# Altium integrated library Cypress PSoC 1.IntLib: 188 symbols (part 7 of 11)
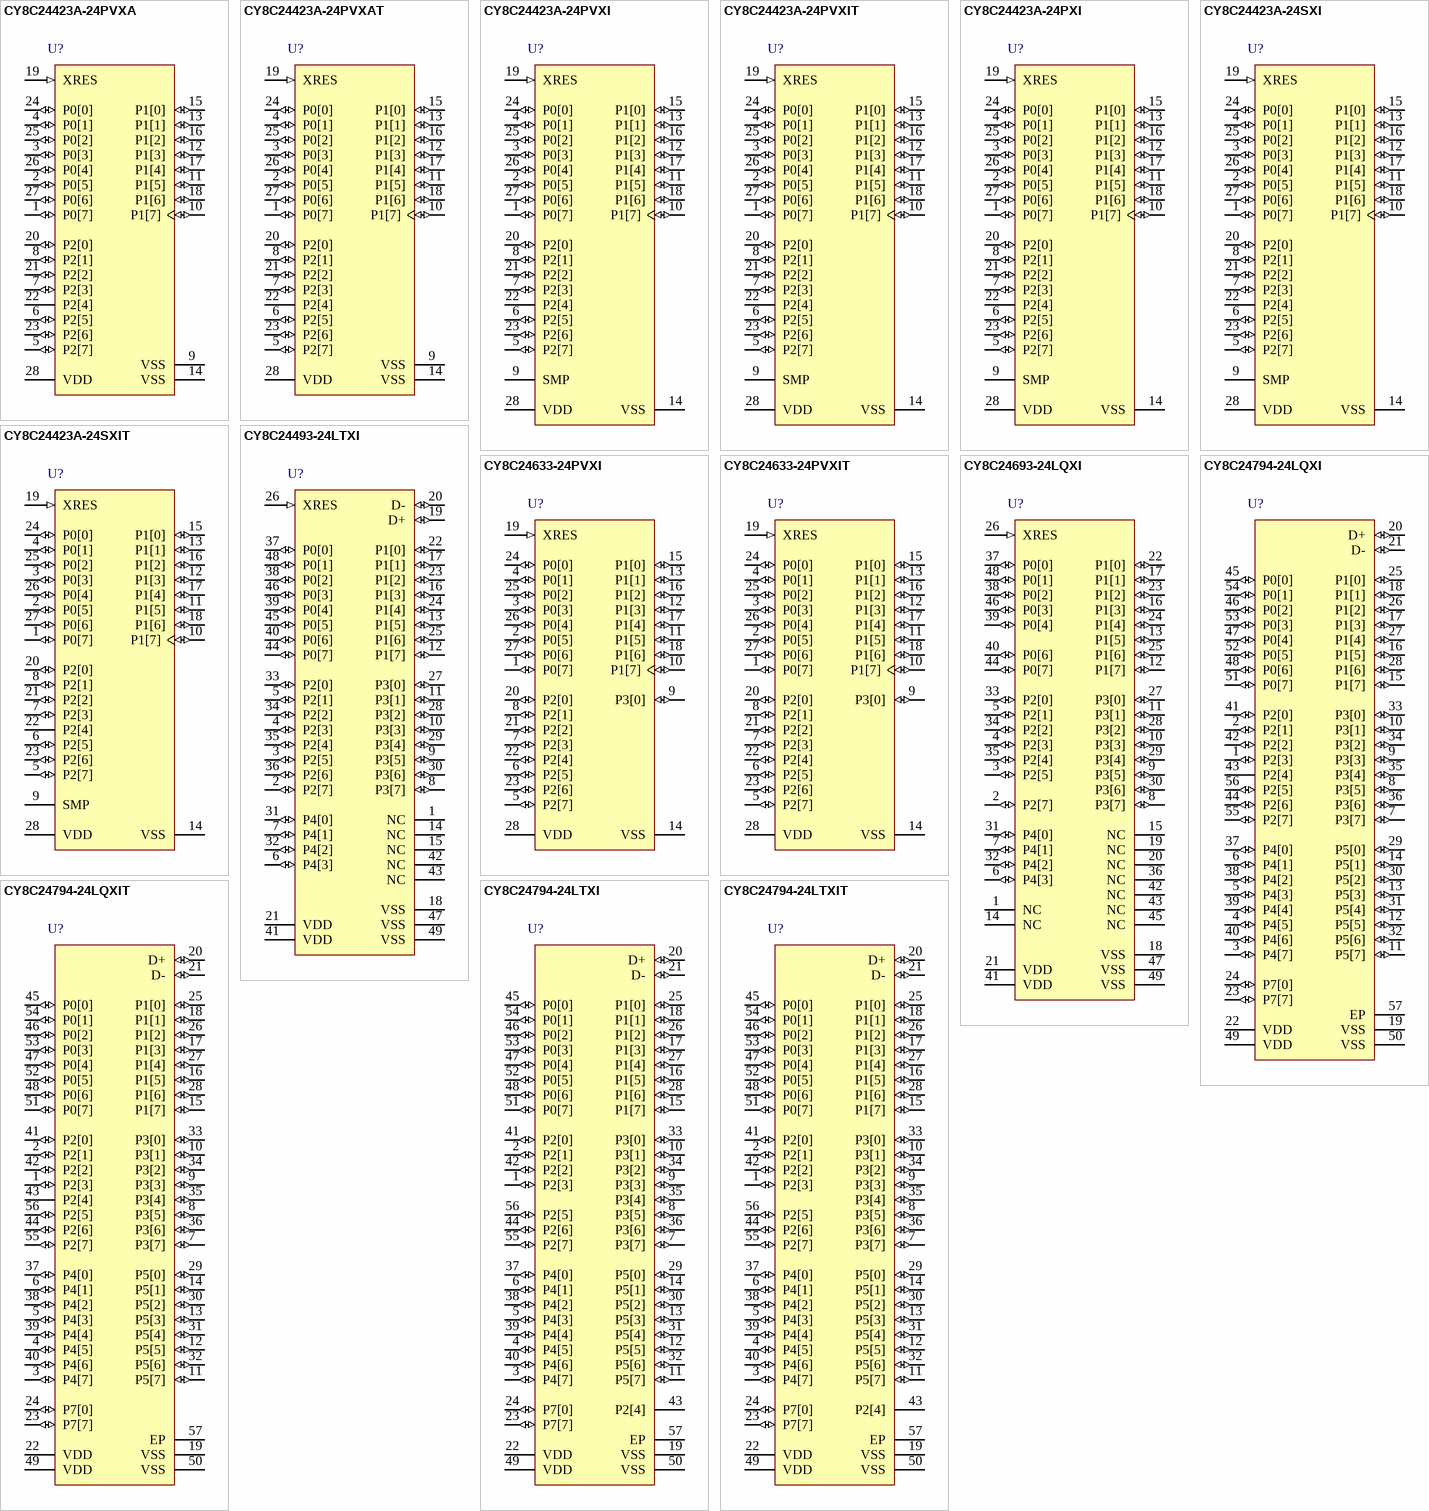
[diagram p17: symbols CY8C24423A-24PVXA to CY8C24794-24LTXIT]

## CY8C24493-24LTXI
designator U?
PSoC Programmable System-on-Chip, 32 KB Flash, 36 GPIOs, 1.71 to 5.5 V, 48-Pin QFN (LTX48A), Tray; Manufacturer: Cypress; PartNumber: CY8C24493-24LTXI; Flash (KB): 32; Max. Operating Frequency (MHz): 24; Max. Operating Voltage (V): 5.5; Min. Operating Voltage (V): 1.71; No. of GPIOs: 36; SRAM (KB): 2; DatasheetVersion: Rev. *E; PackageVersion: Rev. *F, 01/2012; PackageReference: LTX48A; PackageDescription: 48-Pin Quad Flat No Lead, Body 7 x 7 mm, Pitch 0.5 mm; Supplier 1: Digi-Key; Supplier Part Number 1: CY8C24493-24LTXI-ND; Supplier 2: Newark; Supplier Part Number 2: 08X4482; Supplier 3: Mouser; Supplier Part Number 3: 727-CY8C24493-24LTXI; Max. Operating Temp. (degreesC): 85; Min. Operating Temp. (degreesC): -40; Packing: Tray; RoHS: Pb-Free; Mounting Technology: Surface Mount; Code_JEDEC: MO-220; ComponentLink1Description: Manufacturer URL; ComponentLink1URL: http://www.cypress.com/; ComponentLink2Description: Datasheet; ComponentLink2URL: http://www.cypress.com/?docID=45475; ComponentLink3Description: Package Specification; ComponentLink3URL: http://www.cypress.com/?docID=37398
footprint CYP-LTX48A_N (QFN, 48-Leads, Body 7x7mm, Pitch 0.5mm, Thermal Pad 5.1x5.1mm, IPC Medium Density)
footprint CYP-LTX48A_L (QFN, 48-Leads, Body 7x7mm, Pitch 0.5mm, Thermal Pad 5.1x5.1mm, IPC High Density)
footprint CYP-LTX48A_M (QFN, 48-Leads, Body 7x7mm, Pitch 0.5mm, Thermal Pad 5.1x5.1mm, IPC Low Density)
pins: 1 NC "No connection", 2 P2[7] (io), 3 P2[5] (io) "Crystal output (XOut)", 4 P2[3] (io) "Crystal input (XIn)", 5 P2[1] (io), 6 P4[3] (io), 7 P4[1] (io), 8 P3[7] (io), 9 P3[5] (io), 10 P3[3] (io), 11 P3[1] (io), 12 P1[7] (io) "I2C SCL, SPI SS", 13 P1[5] (io) "I2C SDA, SPI MISO", 14 NC "No connection", 15 NC "No connection", 16 P1[3] (io) "SPI CLK", 17 P1[1] (io) "ISSP CLK, I2C SCL, SPI MOSI", 18 VSS (power) "Ground connection", 19 D+ (io) "USB D+", 20 D- (io) "USB D-", 21 VDD (power) "Supply voltage", 22 P1[0] (io) "ISSP DATA, I2C SDA, SPI CLK", 23 P1[2] (io), 24 P1[4] (io) "Optional external clock input (EXTCLK)", 25 P1[6] (io), 26 XRES (in) "Active high external reset with internal pull-down", 27 P3[0] (io), 28 P3[2] (io), 29 P3[4] (io), 30 P3[6] (io), 31 P4[0] (io), 32 P4[2] (io), 33 P2[0] (io), 34 P2[2] (io), 35 P2[4] (io), 36 P2[6] (io), 37 P0[0] (io), 38 P0[2] (io), 39 P0[4] (io), 40 P0[6] (io), 41 VDD (power) "Supply voltage", 42 NC "No connection", 43 NC "No connection", 44 P0[7] (io), 45 P0[5] (io), 46 P0[3] (io), 47 VSS (power) "Ground connection", 48 P0[1] (io), 49 VSS (power) "Center pad must be connected to ground"

## CY8C24633-24PVXI
designator U?
PSoC Programmable System-on-Chip, 8 KB Flash, 26 GPIOs, 3.00 to 5.25 V, 28 Pin SSOP (O28.21); Manufacturer: Cypress; PartNumber: CY8C24633-24PVXI; Flash (KB): 8; Max. Operating Voltage (V): 5.25; Min. Operating Voltage (V): 3.00; No. of Programmable Digital Blocks: 4; DatasheetVersion: Rev. *G; PackageVersion: *C; PackageReference: PVX28; PackageDescription: 28-Pin SSOP, Body 10.2 x 5.3 mm, Pitch 0.65 mm; Supplier 1: Digi-Key; Supplier Part Number 1: 428-2950-5-ND; Supplier 2: Mouser; Supplier Part Number 2: 727-CY8C24633-24PVXI; Mounting Technology: Surface Mount; ComponentLink1Description: Manufacturer URL; ComponentLink1URL: http://www.cypress.com/; ComponentLink2Description: Datasheet; ComponentLink2URL: http://www.cypress.com/?docID=41334; ComponentLink3Description: Package Specification; ComponentLink3URL: http://www.cypress.com/?docID=1371; ComponentLink4Description: Product URL; ComponentLink4URL: http://www.cypress.com/?rID=39599
footprint CYP-PVX28_N (SOP, 28-Leads, Body 10.2x5.3mm, Pitch 0.65mm, IPC Medium Density)
footprint CYP-PVX28_L (SOP, 28-Leads, Body 10.2x5.3mm, Pitch 0.65mm, IPC High Density)
footprint CYP-PVX28_M (SOP, 28-Leads, Body 10.2x5.3mm, Pitch 0.65mm, IPC Low Density)
pins: 1 P0[7] (io) "Analog col mux IP and ADC IP", 2 P0[5] (io) "Analog col mux IP and column O/P and ADC IP", 3 P0[3] (io) "Analog col mux IP and column O/P and ADC IP", 4 P0[1] (io) "Analog col mux IP and ADC IP", 5 P2[7] (io) "GPIO", 6 P2[5] (io) "GPIO", 7 P2[3] (io) "Direct switched capacitor input", 8 P2[1] (io) "Direct switched capacitor input", 9 P3[0] (io) "GPIO/ADC Vref (optional)", 10 P1[7] (io) "I2C SCL", 11 P1[5] (io) "I2C SDA", 12 P1[3] (io) "GPIO", 13 P1[1] (io) "GPIO, Xtal input, I2C SCL, ISSP SCL", 14 VSS (power) "Ground pin", 15 P1[0] (io) "GPIO, Xtal output, I2C SDA, ISSP SDA", 16 P1[2] (io) "GPIO", 17 P1[4] (io) "GPIO, external clock IP", 18 P1[6] (io) "GPIO", 19 XRES (in) "External reset", 20 P2[0] (io) "Direct switched capacitor input", 21 P2[2] (io) "Direct switched capacitor input", 22 P2[4] (io) "GPIO", 23 P2[6] (io) "GPIO", 24 P0[0] (io) "Analog Col Mux IP and ADC IP", 25 P0[2] (io) "Analog Col Mux IP and ADC IP", 26 P0[4] (io) "Analog Col Mux IP and ADC IP", 27 P0[6] (io) "Analog Col Mux IP and ADC IP", 28 VDD (power) "Supply voltage"

## CY8C24633-24PVXIT
designator U?
PSoC Programmable System-on-Chip, 8 KB Flash, 26 GPIOs, 3.00 to 5.25 V, 28 Pin SSOP (O28.21), Tape and Reel; Manufacturer: Cypress; PartNumber: CY8C24633-24PVXIT; Flash (KB): 8; Max. Operating Voltage (V): 5.25; Min. Operating Voltage (V): 3.00; No. of Programmable Digital Blocks: 4; DatasheetVersion: Rev. *G; PackageVersion: *C; PackageReference: PVX28; PackageDescription: 28-Pin SSOP, Body 10.2 x 5.3 mm, Pitch 0.65 mm; Supplier 1: Digi-Key; Supplier Part Number 1: CY8C24633-24PVXIT-ND; Supplier 2: Mouser; Supplier Part Number 2: 727-CY8C2463324PVXIT; Mounting Technology: Surface Mount; ComponentLink1Description: Manufacturer URL; ComponentLink1URL: http://www.cypress.com/; ComponentLink2Description: Datasheet; ComponentLink2URL: http://www.cypress.com/?docID=41334; ComponentLink3Description: Package Specification; ComponentLink3URL: http://www.cypress.com/?docID=1371; ComponentLink4Description: Product URL; ComponentLink4URL: http://www.cypress.com/?rID=39599
footprint CYP-PVX28_N (SOP, 28-Leads, Body 10.2x5.3mm, Pitch 0.65mm, IPC Medium Density)
footprint CYP-PVX28_L (SOP, 28-Leads, Body 10.2x5.3mm, Pitch 0.65mm, IPC High Density)
footprint CYP-PVX28_M (SOP, 28-Leads, Body 10.2x5.3mm, Pitch 0.65mm, IPC Low Density)
pins: 1 P0[7] (io) "Analog col mux IP and ADC IP", 2 P0[5] (io) "Analog col mux IP and column O/P and ADC IP", 3 P0[3] (io) "Analog col mux IP and column O/P and ADC IP", 4 P0[1] (io) "Analog col mux IP and ADC IP", 5 P2[7] (io) "GPIO", 6 P2[5] (io) "GPIO", 7 P2[3] (io) "Direct switched capacitor input", 8 P2[1] (io) "Direct switched capacitor input", 9 P3[0] (io) "GPIO/ADC Vref (optional)", 10 P1[7] (io) "I2C SCL", 11 P1[5] (io) "I2C SDA", 12 P1[3] (io) "GPIO", 13 P1[1] (io) "GPIO, Xtal input, I2C SCL, ISSP SCL", 14 VSS (power) "Ground pin", 15 P1[0] (io) "GPIO, Xtal output, I2C SDA, ISSP SDA", 16 P1[2] (io) "GPIO", 17 P1[4] (io) "GPIO, external clock IP", 18 P1[6] (io) "GPIO", 19 XRES (in) "External reset", 20 P2[0] (io) "Direct switched capacitor input", 21 P2[2] (io) "Direct switched capacitor input", 22 P2[4] (io) "GPIO", 23 P2[6] (io) "GPIO", 24 P0[0] (io) "Analog Col Mux IP and ADC IP", 25 P0[2] (io) "Analog Col Mux IP and ADC IP", 26 P0[4] (io) "Analog Col Mux IP and ADC IP", 27 P0[6] (io) "Analog Col Mux IP and ADC IP", 28 VDD (power) "Supply voltage"

## CY8C24693-24LQXI
designator U?
PSoC Programmable System-on-Chip, 32 KB Flash, 34 GPIOs, 1.71 to 5.5 V, 48-Pin QFN (LQX48A), Tray; Manufacturer: Cypress; PartNumber: CY8C24693-24LQXI; Flash (KB): 32; Max. Operating Frequency (MHz): 24; Max. Operating Voltage (V): 5.5; Min. Operating Voltage (V): 1.71; No. of GPIOs: 34; SRAM (KB): 2; DatasheetVersion: Rev. *E; PackageVersion: Rev. *E; PackageReference: LQX48A; PackageDescription: 48-pin QFN, Body 6 x 6 mm, Pitch 0.4 mm; Supplier 1: Digi-Key; Supplier Part Number 1: CY8C24693-24LQXI-ND; Supplier 2: Newark; Supplier Part Number 2: 08X4483; Supplier 3: Mouser; Supplier Part Number 3: 727-CY8C24693-24LQXI; Max. Operating Temp. (degreesC): 85; Min. Operating Temp. (degreesC): -40; Packing: Tray; RoHS: Pb-Free; Mounting Technology: Surface Mount; Code_JEDEC: MO-248; ComponentLink1Description: Manufacturer URL; ComponentLink1URL: http://www.cypress.com/; ComponentLink2Description: Datasheet; ComponentLink2URL: http://www.cypress.com/?docID=45475; ComponentLink3Description: Package Specification; ComponentLink3URL: http://www.cypress.com/?docID=45475
footprint CYP-LQX48A_N (QFN, 48-Leads, Body 6.1x6.1mm, Pitch 0.4mm, Thermal Pad 4.6x4.6mm, IPC Medium Density)
footprint CYP-LQX48A_L (QFN, 48-Leads, Body 6.1x6.1mm, Pitch 0.4mm, Thermal Pad 4.6x4.6mm, IPC High Density)
footprint CYP-LQX48A_M (QFN, 48-Leads, Body 6.1x6.1mm, Pitch 0.4mm, Thermal Pad 4.6x4.6mm, IPC Low Density)
pins: 1 NC "No connection", 2 P2[7] (io), 3 P2[5] (io) "Crystal output (XOut)", 4 P2[3] (io) "Crystal input (XIn)", 5 P2[1] (io), 6 P4[3] (io), 7 P4[1] (io), 8 P3[7] (io), 9 P3[5] (io), 10 P3[3] (io), 11 P3[1] (io), 12 P1[7] (io) "I2C SCL, SPI SS", 13 P1[5] (io) "I2C SDA, SPI MISO", 14 NC "No connection", 15 NC "No connection", 16 P1[3] (io) "SPI CLK", 17 P1[1] (io) "ISSP CLK, I2C SCL, SPI MOSI", 18 VSS (power) "Ground connection", 19 NC "No connection", 20 NC "No connection", 21 VDD (power) "Supply voltage", 22 P1[0] (io) "ISSP DATA, I2C SDA, SPI CLK", 23 P1[2] (io), 24 P1[4] (io) "Optional external clock input (EXTCLK)", 25 P1[6] (io), 26 XRES (in) "Active high external reset with internal pull-down", 27 P3[0] (io), 28 P3[2] (io), 29 P3[4] (io), 30 P3[6] (io), 31 P4[0] (io), 32 P4[2] (io), 33 P2[0] (io), 34 P2[2] (io), 35 P2[4] (io), 36 NC "No connection", 37 P0[0] (io), 38 P0[2] (io), 39 P0[4] (io), 40 P0[6] (io), 41 VDD (power) "Supply voltage", 42 NC "No connection", 43 NC "No connection", 44 P0[7] (io), 45 NC "No connection", 46 P0[3] (io), 47 VSS (power) "Ground connection", 48 P0[1] (io), 49 VSS (power) "Center pad must be connected to ground"

## CY8C24794-24LQXI
designator U?
PSoC Programmable System-on-Chip, 16 KB Flash, 50 GPIOs, 3.00 to 5.25 V, 56-Pin QFN (QFN-56-7x7-001-58740); Manufacturer: Cypress; PartNumber: CY8C24794-24LQXI; Comm. Interface: I2C-SPI-UART-USB; CPU Core: M8C; No. of CapSense IO: 44; Flash (KB): 16; Max. Operating Voltage (V): 5.25; Min. Operating Voltage (V): 3; No. of GPIOs: 50; Proximity Sensing: Y; PWMs: HW; Rating: I; Sliders: 8; SmartSense Enabled: N; SRAM (KB): 1; DatasheetVersion: Rev. AH; PackageVersion: Rev. AE; PackageReference: LQX56; PackageDescription: 56-Pin QFN, Body 7 x 7 mm, Pitch 0.4 mm; Supplier 1: Digi-Key; Supplier Part Number 1: 428-3075-ND; Supplier 2: Newark; Supplier Part Number 2: 83R9538; Supplier 3: Mouser; Supplier Part Number 3: 727-8C2479424LQXI; Max. Operating Temp. (°C): 85; Min. Operating Temp. (°C): -40; No. of Programmable Digital Blocks: 3; RoHS: Pb-Free; Mounting Technology: Surface Mount; Code_JEDEC: MO-220; ComponentLink1Description: Manufacturer URL; ComponentLink1URL: http://www.cypress.com/; ComponentLink2Description: Datasheet; ComponentLink2URL: http://www.cypress.com/?docID=45174; ComponentLink3Description: Package Specification; ComponentLink3URL: http://www.cypress.com/?docID=35576; ComponentLink4Description: Product URL; ComponentLink4URL: http://www.cypress.com/?rID=3371
footprint CYP-LQX56_N (QFN, 56-Leads, Body 7x7mm, Pitch 0.4mm, Thermal Pad 5.6x5.6mm, IPC Medium Density)
footprint CYP-LQX56_L (QFN, 56-Leads, Body 7x7mm, Pitch 0.4mm, Thermal Pad 5.6x5.6mm, IPC High Density)
footprint CYP-LQX56_M (QFN, 56-Leads, Body 7x7mm, Pitch 0.4mm, Thermal Pad 5.6x5.6mm, IPC Low Density)
pins: 1 P2[3] (io) "Direct switched capacitor block input", 2 P2[1] (io) "Direct switched capacitor block input", 3 P4[7] (io), 4 P4[5] (io), 5 P4[3] (io), 6 P4[1] (io), 7 P3[7] (io), 8 P3[5] (io), 9 P3[3] (io), 10 P3[1] (io), 11 P5[7] (io), 12 P5[5] (io), 13 P5[3] (io), 14 P5[1] (io), 15 P1[7] (io) "I2C serial clock (SCL)", 16 P1[5] (io) "I2C serial data (SDA)", 17 P1[3] (io), 18 P1[1] (io) "I2C SCL, ISSP SCLK", 19 VSS (power) "Ground connection", 20 D+ (io), 21 D- (io), 22 VDD (power) "Supply voltage", 23 P7[7] (io), 24 P7[0] (io), 25 P1[0] (io) "I2C SDA, ISSP SDATA", 26 P1[2] (io), 27 P1[4] (io) "Optional external clock input (EXTCLK)", 28 P1[6] (io), 29 P5[0] (io), 30 P5[2] (io), 31 P5[4] (io), 32 P5[6] (io), 33 P3[0] (io), 34 P3[2] (io), 35 P3[4] (io), 36 P3[6] (io), 37 P4[0] (io), 38 P4[2] (io), 39 P4[4] (io), 40 P4[6] (io), 41 P2[0] (io) "Direct switched capacitor block input", 42 P2[2] (io) "Direct switched capacitor block input", 43 P2[4] (power) "External analog ground (AGND) input", 44 P2[6] (io) "External voltage reference (VREF) input", 45 P0[0] (io) "Analog column mux input", 46 P0[2] (io) "Analog column mux input", 47 P0[4] (io) "Analog column mux input VREF", 48 P0[6] (io) "Analog column mux input", 49 VDD (power) "Supply voltage", 50 VSS (power) "Ground connection", 51 P0[7] (io) "Analog column mux input", 52 P0[5] (io) "Analog column mux input and column output", 53 P0[3] (io) "Analog column mux input and column output", 54 P0[1] (io) "Analog column mux input", 55 P2[7] (io), 56 P2[5] (io), 57 EP (power) "Center pad"

## CY8C24794-24LQXIT
designator U?
PSoC Programmable System-on-Chip, 16 KB Flash, 50 GPIOs, 3.00 to 5.25 V, 56-Pin QFN (QFN-56-7x7-001-58740), Tape and Reel; Manufacturer: Cypress; PartNumber: CY8C24794-24LQXIT; Comm. Interface: I2C-SPI-UART-USB; CPU Core: M8C; No. of CapSense IO: 44; Flash (KB): 16; Max. Operating Voltage (V): 5.25; Min. Operating Voltage (V): 3; No. of GPIOs: 50; Proximity Sensing: Y; PWMs: HW; Rating: I; Sliders: 8; SmartSense Enabled: N; SRAM (KB): 1; DatasheetVersion: Rev. AH; PackageVersion: Rev. AE; PackageReference: LQX56; PackageDescription: 56-Pin QFN, Body 7 x 7 mm, Pitch 0.4 mm; Supplier 1: Digi-Key; Supplier Part Number 1: CY8C24794-24LQXIT-ND; Supplier 2: Mouser; Supplier Part Number 2: 727-8C2479424LQXIT; Max. Operating Temp. (°C): 85; Min. Operating Temp. (°C): -40; No. of Programmable Digital Blocks: 3; Packing: Tape and Reel; RoHS: Pb-Free; Mounting Technology: Surface Mount; Code_JEDEC: MO-220; ComponentLink1Description: Manufacturer URL; ComponentLink1URL: http://www.cypress.com/; ComponentLink2Description: Datasheet; ComponentLink2URL: http://www.cypress.com/?docID=45174; ComponentLink3Description: Package Specification; ComponentLink3URL: http://www.cypress.com/?docID=35576; ComponentLink4Description: Product URL; ComponentLink4URL: http://www.cypress.com/?rID=3371
footprint CYP-LQX56_N (QFN, 56-Leads, Body 7x7mm, Pitch 0.4mm, Thermal Pad 5.6x5.6mm, IPC Medium Density)
footprint CYP-LQX56_L (QFN, 56-Leads, Body 7x7mm, Pitch 0.4mm, Thermal Pad 5.6x5.6mm, IPC High Density)
footprint CYP-LQX56_M (QFN, 56-Leads, Body 7x7mm, Pitch 0.4mm, Thermal Pad 5.6x5.6mm, IPC Low Density)
pins: 1 P2[3] (io) "Direct switched capacitor block input", 2 P2[1] (io) "Direct switched capacitor block input", 3 P4[7] (io), 4 P4[5] (io), 5 P4[3] (io), 6 P4[1] (io), 7 P3[7] (io), 8 P3[5] (io), 9 P3[3] (io), 10 P3[1] (io), 11 P5[7] (io), 12 P5[5] (io), 13 P5[3] (io), 14 P5[1] (io), 15 P1[7] (io) "I2C serial clock (SCL)", 16 P1[5] (io) "I2C serial data (SDA)", 17 P1[3] (io), 18 P1[1] (io) "I2C SCL, ISSP SCLK", 19 VSS (power) "Ground connection", 20 D+ (io), 21 D- (io), 22 VDD (power) "Supply voltage", 23 P7[7] (io), 24 P7[0] (io), 25 P1[0] (io) "I2C SDA, ISSP SDATA", 26 P1[2] (io), 27 P1[4] (io) "Optional external clock input (EXTCLK)", 28 P1[6] (io), 29 P5[0] (io), 30 P5[2] (io), 31 P5[4] (io), 32 P5[6] (io), 33 P3[0] (io), 34 P3[2] (io), 35 P3[4] (io), 36 P3[6] (io), 37 P4[0] (io), 38 P4[2] (io), 39 P4[4] (io), 40 P4[6] (io), 41 P2[0] (io) "Direct switched capacitor block input", 42 P2[2] (io) "Direct switched capacitor block input", 43 P2[4] (power) "External analog ground (AGND) input", 44 P2[6] (io) "External voltage reference (VREF) input", 45 P0[0] (io) "Analog column mux input", 46 P0[2] (io) "Analog column mux input", 47 P0[4] (io) "Analog column mux input VREF", 48 P0[6] (io) "Analog column mux input", 49 VDD (power) "Supply voltage", 50 VSS (power) "Ground connection", 51 P0[7] (io) "Analog column mux input", 52 P0[5] (io) "Analog column mux input and column output", 53 P0[3] (io) "Analog column mux input and column output", 54 P0[1] (io) "Analog column mux input", 55 P2[7] (io), 56 P2[5] (io), 57 EP (power) "Center pad"

## CY8C24794-24LTXI
designator U?
PSoC Programmable System-on-Chip, 16 KB Flash, 50 GPIOs, 3.00 to 5.25 V, 56-Pin QFN (LT56); Manufacturer: Cypress; PartNumber: CY8C24794-24LTXI; Comm. Interface: I2C-SPI-UART-USB; CPU Core: M8C; No. of CapSense IO: 44; Flash (KB): 16; Max. Operating Voltage (V): 5.25; Min. Operating Voltage (V): 3; No. of GPIOs: 50; Proximity Sensing: Y; PWMs: HW; Rating: I; Sliders: 8; SmartSense Enabled: N; SRAM (KB): 1; DatasheetVersion: Rev. AH; PackageVersion: Rev. *B; PackageReference: LTX56; PackageDescription: 56-Pin QFN, Body 8 x 8 mm, Pitch 0.5 mm; Supplier 1: Digi-Key; Supplier Part Number 1: 428-2937-ND; Supplier 2: Farnell; Supplier Part Number 2: 1874104; Supplier 3: Newark; Supplier Part Number 3: 50R9569; Supplier 4: Mouser; Supplier Part Number 4: 727-CY8C24794-24LTXI; Max. Operating Temp. (°C): 85; Min. Operating Temp. (°C): -40; RoHS: Pb-Free; Mounting Technology: Surface Mount; Code_JEDEC: MO-220; ComponentLink1Description: Manufacturer URL; ComponentLink1URL: http://www.cypress.com/; ComponentLink2Description: Datasheet; ComponentLink2URL: http://www.cypress.com/?docID=45174; ComponentLink3Description: Package Specification; ComponentLink3URL: http://www.cypress.com/?docID=35576; ComponentLink4Description: Product URL; ComponentLink4URL: http://www.cypress.com/?rID=3371
footprint CYP-LTX56_N (QFN, 56-Leads, Body 8x8mm, Pitch 0.5mm, Thermal Pad 5.21x4.5mm, IPC Medium Density)
footprint CYP-LTX56_L (QFN, 56-Leads, Body 8x8mm, Pitch 0.5mm, Thermal Pad 5.21x4.5mm, IPC High Density)
footprint CYP-LTX56_M (QFN, 56-Leads, Body 8x8mm, Pitch 0.5mm, Thermal Pad 5.21x4.5mm, IPC Low Density)
pins: 1 P2[3] (io) "Direct switched capacitor block input", 2 P2[1] (io) "Direct switched capacitor block input", 3 P4[7] (io), 4 P4[5] (io), 5 P4[3] (io), 6 P4[1] (io), 7 P3[7] (io), 8 P3[5] (io), 9 P3[3] (io), 10 P3[1] (io), 11 P5[7] (io), 12 P5[5] (io), 13 P5[3] (io), 14 P5[1] (io), 15 P1[7] (io) "I2C serial clock (SCL)", 16 P1[5] (io) "I2C serial data (SDA)", 17 P1[3] (io), 18 P1[1] (io) "I2C SCL, ISSP SCLK", 19 VSS (power) "Ground connection", 20 D+ (io), 21 D- (io), 22 VDD (power) "Supply voltage", 23 P7[7] (io), 24 P7[0] (io), 25 P1[0] (io) "I2C SDA, ISSP SDATA", 26 P1[2] (io), 27 P1[4] (io) "Optional external clock input (EXTCLK)", 28 P1[6] (io), 29 P5[0] (io), 30 P5[2] (io), 31 P5[4] (io), 32 P5[6] (io), 33 P3[0] (io), 34 P3[2] (io), 35 P3[4] (io), 36 P3[6] (io), 37 P4[0] (io), 38 P4[2] (io), 39 P4[4] (io), 40 P4[6] (io), 41 P2[0] (io) "Direct switched capacitor block input", 42 P2[2] (io) "Direct switched capacitor block input", 43 P2[4] (power) "External analog ground (AGND) input", 44 P2[6] (io) "External voltage reference (VREF) input", 45 P0[0] (io) "Analog column mux input", 46 P0[2] (io) "Analog column mux input", 47 P0[4] (io) "Analog column mux input VREF", 48 P0[6] (io) "Analog column mux input", 49 VDD (power) "Supply voltage", 50 VSS (power) "Ground connection", 51 P0[7] (io) "Analog column mux input", 52 P0[5] (io) "Analog column mux input and column output", 53 P0[3] (io) "Analog column mux input and column output", 54 P0[1] (io) "Analog column mux input", 55 P2[7] (io), 56 P2[5] (io), 57 EP (power) "Solderable Exposed PAD"

## CY8C24794-24LTXIT
designator U?
PSoC Programmable System-on-Chip, 16 KB Flash, 50 GPIOs, 3.00 to 5.25 V, 56-Pin QFN (LT56), Tape and Reel; Manufacturer: Cypress; PartNumber: CY8C24794-24LTXIT; Comm. Interface: I2C-SPI-UART-USB; CPU Core: M8C; No. of CapSense IO: 44; Flash (KB): 16; Max. Operating Voltage (V): 5.25; Min. Operating Voltage (V): 3; No. of GPIOs: 50; Proximity Sensing: Y; PWMs: HW; Rating: I; Sliders: 8; SmartSense Enabled: N; SRAM (KB): 1; DatasheetVersion: Rev. AH; PackageVersion: Rev. *B; PackageReference: LTX56; PackageDescription: 56-Pin QFN, Body 8 x 8 mm, Pitch 0.5 mm; Supplier 1: Digi-Key; Supplier Part Number 1: CY8C24794-24LTXIT-ND; Supplier 2: Newark; Supplier Part Number 2: 50R9570; Supplier 3: Mouser; Supplier Part Number 3: 727-CY8C2479424LTXIT; Max. Operating Temp. (°C): 85; Min. Operating Temp. (°C): -40; Packing: Tape and Reel; RoHS: Pb-Free; Mounting Technology: Surface Mount; Code_JEDEC: MO-220; ComponentLink1Description: Manufacturer URL; ComponentLink1URL: http://www.cypress.com/; ComponentLink2Description: Datasheet; ComponentLink2URL: http://www.cypress.com/?docID=45174; ComponentLink3Description: Package Specification; ComponentLink3URL: http://www.cypress.com/?docID=35576; ComponentLink4Description: Product URL; ComponentLink4URL: http://www.cypress.com/?rID=3371
footprint CYP-LTX56_N (QFN, 56-Leads, Body 8x8mm, Pitch 0.5mm, Thermal Pad 5.21x4.5mm, IPC Medium Density)
footprint CYP-LTX56_L (QFN, 56-Leads, Body 8x8mm, Pitch 0.5mm, Thermal Pad 5.21x4.5mm, IPC High Density)
footprint CYP-LTX56_M (QFN, 56-Leads, Body 8x8mm, Pitch 0.5mm, Thermal Pad 5.21x4.5mm, IPC Low Density)
pins: 1 P2[3] (io) "Direct switched capacitor block input", 2 P2[1] (io) "Direct switched capacitor block input", 3 P4[7] (io), 4 P4[5] (io), 5 P4[3] (io), 6 P4[1] (io), 7 P3[7] (io), 8 P3[5] (io), 9 P3[3] (io), 10 P3[1] (io), 11 P5[7] (io), 12 P5[5] (io), 13 P5[3] (io), 14 P5[1] (io), 15 P1[7] (io) "I2C serial clock (SCL)", 16 P1[5] (io) "I2C serial data (SDA)", 17 P1[3] (io), 18 P1[1] (io) "I2C SCL, ISSP SCLK", 19 VSS (power) "Ground connection", 20 D+ (io), 21 D- (io), 22 VDD (power) "Supply voltage", 23 P7[7] (io), 24 P7[0] (io), 25 P1[0] (io) "I2C SDA, ISSP SDATA", 26 P1[2] (io), 27 P1[4] (io) "Optional external clock input (EXTCLK)", 28 P1[6] (io), 29 P5[0] (io), 30 P5[2] (io), 31 P5[4] (io), 32 P5[6] (io), 33 P3[0] (io), 34 P3[2] (io), 35 P3[4] (io), 36 P3[6] (io), 37 P4[0] (io), 38 P4[2] (io), 39 P4[4] (io), 40 P4[6] (io), 41 P2[0] (io) "Direct switched capacitor block input", 42 P2[2] (io) "Direct switched capacitor block input", 43 P2[4] (power) "External analog ground (AGND) input", 44 P2[6] (io) "External voltage reference (VREF) input", 45 P0[0] (io) "Analog column mux input", 46 P0[2] (io) "Analog column mux input", 47 P0[4] (io) "Analog column mux input VREF", 48 P0[6] (io) "Analog column mux input", 49 VDD (power) "Supply voltage", 50 VSS (power) "Ground connection", 51 P0[7] (io) "Analog column mux input", 52 P0[5] (io) "Analog column mux input and column output", 53 P0[3] (io) "Analog column mux input and column output", 54 P0[1] (io) "Analog column mux input", 55 P2[7] (io), 56 P2[5] (io), 57 EP (power) "Solderable Exposed PAD"

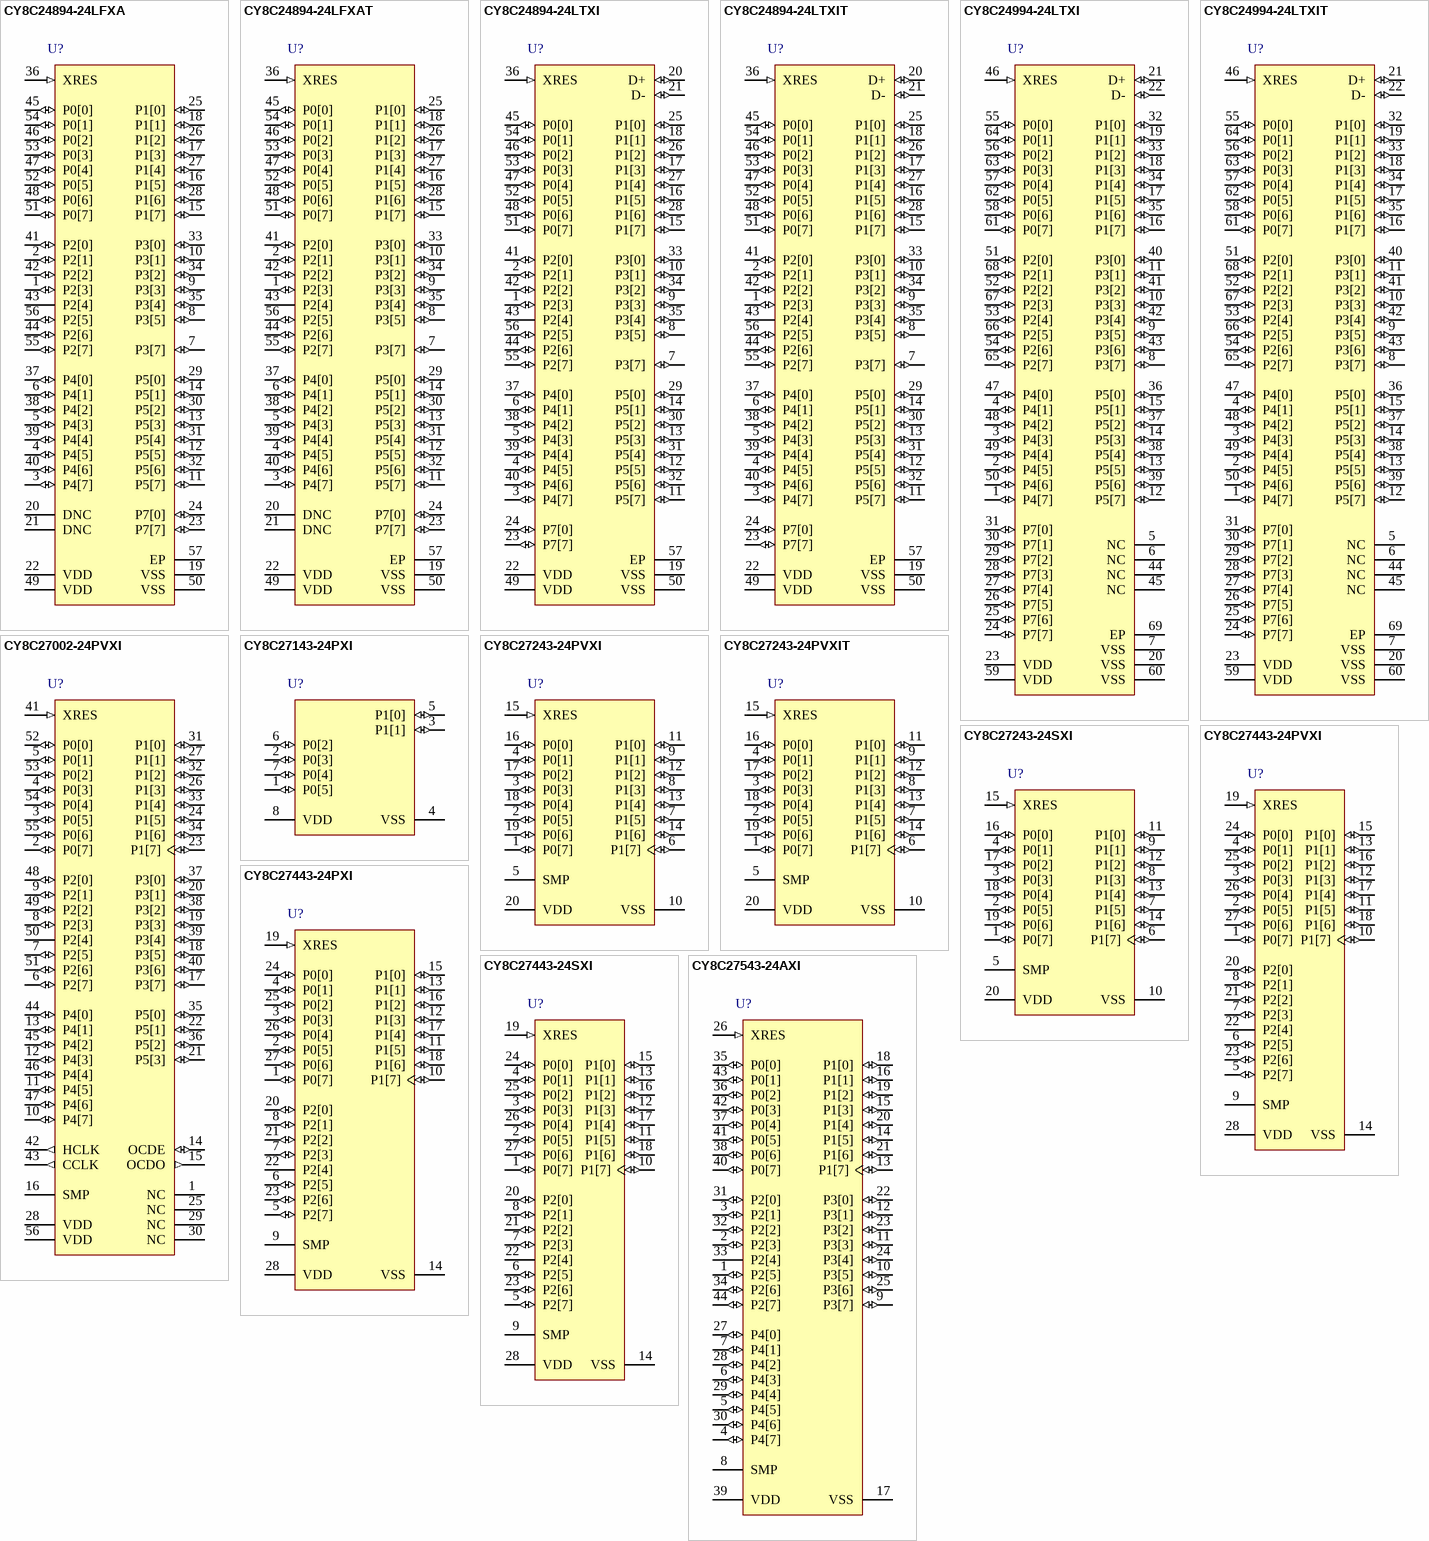
[diagram p7: symbols CY8C24894-24LFXA to CY8C27543-24AXI]

## CY8C24894-24LFXA
designator U?
Automotive PSoC Programmable System-on-Chip, 16 KB Flash, 49 GPIOs, 3.00 to 5.25 V, 56-Pin QFN (LF56); Manufacturer: Cypress; PartNumber: CY8C24894-24LFXA; Comm. Interface: I2C-SPI-UART; CPU Core: M8C; No. of CapSense IO: 43; Flash (KB): 16; Max. Operating Voltage (V): 5.25; Min. Operating Voltage (V): 3; No. of GPIOs: 49; Proximity Sensing: Y; PWMs: HW; Rating: A; Sliders: 8; SmartSense Enabled: N; SRAM (KB): 1; DatasheetVersion: Rev. *G; PackageVersion: *G; PackageReference: LFX56; PackageDescription: 56-Pin LEAD QFN, Body 8 x 8 mm, Pitch 0.50 mm; Supplier 1: Digi-Key; Supplier Part Number 1: CY8C24894-24LFXA-ND; Supplier 2: Newark; Supplier Part Number 2: 83R9540; Supplier 3: Mouser; Supplier Part Number 3: 727-8C2489424LFXA; Max. Operating Temp. (°C): 85; Min. Operating Temp. (°C): -40; No. of Programmable Digital Blocks: 3; RoHS: Pb-Free; Mounting Technology: Surface Mount; Code_JEDEC: MO-220; ComponentLink1Description: Manufacturer URL; ComponentLink1URL: http://www.cypress.com/; ComponentLink2Description: Datasheet; ComponentLink2URL: http://www.cypress.com/?docID=49512; ComponentLink3Description: Package Specification; ComponentLink3URL: http://www.cypress.com/?docID=19279; ComponentLink4Description: Product URL; ComponentLink4URL: http://www.cypress.com/?rID=37765
footprint CYP-LFX56-5210X4500TP_N (QFN, 56-Leads, Body 8x8mm, Pitch 0.5mm, Thermal Pad 5.21x4.5mm, IPC Medium Density)
footprint CYP-LFX56-5210X4500TP_L (QFN, 56-Leads, Body 8x8mm, Pitch 0.5mm, Thermal Pad 5.21x4.5mm, IPC High Density)
footprint CYP-LFX56-5210X4500TP_M (QFN, 56-Leads, Body 8x8mm, Pitch 0.5mm, Thermal Pad 5.21x4.5mm, IPC Low Density)
pins: 1 P2[3] (io) "Direct switched capacitor block input", 2 P2[1] (io) "Direct switched capacitor block input", 3 P4[7] (io), 4 P4[5] (io), 5 P4[3] (io), 6 P4[1] (io), 7 P3[7] (io), 8 P3[5] (io), 9 P3[3] (io), 10 P3[1] (io), 11 P5[7] (io), 12 P5[5] (io), 13 P5[3] (io), 14 P5[1] (io), 15 P1[7] (io) "I2C serial clock (SCL)", 16 P1[5] (io) "I2C serial data (SDA)", 17 P1[3] (io), 18 P1[1] (io) "I2C SCL, ISSP SCLK", 19 VSS (power) "Ground connection", 20 DNC "Do not connect anything to this pin", 21 DNC "Do not connect anything to this pin", 22 VDD (power) "Supply voltage", 23 P7[7] (io), 24 P7[0] (io), 25 P1[0] (io) "I2C SDA, ISSP SDATA", 26 P1[2] (io), 27 P1[4] (io) "Optional external clock (EXTCLK) input", 28 P1[6] (io), 29 P5[0] (io), 30 P5[2] (io), 31 P5[4] (io), 32 P5[6] (io), 33 P3[0] (io), 34 P3[2] (io), 35 P3[4] (io), 36 XRES (in) "Active high external reset with internal pull-down", 37 P4[0] (io), 38 P4[2] (io), 39 P4[4] (io), 40 P4[6] (io), 41 P2[0] (io) "Direct switched capacitor block input", 42 P2[2] (io) "Direct switched capacitor block input", 43 P2[4] (power) "External analog ground (AGND) input", 44 P2[6] (io) "External voltage reference (VREF) input", 45 P0[0] (io) "Analog column mux input", 46 P0[2] (io) "Analog column mux input", 47 P0[4] (io) "Analog column mux input", 48 P0[6] (io) "Analog column mux input", 49 VDD (power) "Supply voltage", 50 VSS (power) "Ground connection", 51 P0[7] (io) "Analog column mux input", 52 P0[5] (io) "Analog column mux input and column output", 53 P0[3] (io) "Analog column mux input and column output", 54 P0[1] (io) "Analog column mux input", 55 P2[7] (io), 56 P2[5] (io), 57 EP (power) "Exposed pad is not connected internally. Connect to circuit ground for best performance"

## CY8C24894-24LFXAT
designator U?
Automotive PSoC Programmable System-on-Chip, 16 KB Flash, 49 GPIOs, 3.00 to 5.25 V, 56-Pin QFN (LF56), Tape and Reel; Manufacturer: Cypress; PartNumber: CY8C24894-24LFXAT; Comm. Interface: I2C-SPI-UART; CPU Core: M8C; No. of CapSense IO: 43; Flash (KB): 16; Max. Operating Voltage (V): 5.25; Min. Operating Voltage (V): 3; No. of GPIOs: 49; Proximity Sensing: Y; PWMs: HW; Rating: A; Sliders: 8; SmartSense Enabled: N; SRAM (KB): 1; DatasheetVersion: Rev. *G; PackageVersion: *G; PackageReference: LFX56; PackageDescription: 56-Pin LEAD QFN, Body 8 x 8 mm, Pitch 0.50 mm; Supplier 1: Digi-Key; Supplier Part Number 1: CY8C24894-24LFXAT-ND; Supplier 2: Mouser; Supplier Part Number 2: 727-8C2489424LFXAT; Max. Operating Temp. (°C): 85; Min. Operating Temp. (°C): -40; No. of Programmable Digital Blocks: 3; Packing: Tape and Reel; RoHS: Pb-Free; Mounting Technology: Surface Mount; Code_JEDEC: MO-220; ComponentLink1Description: Manufacturer URL; ComponentLink1URL: http://www.cypress.com/; ComponentLink2Description: Datasheet; ComponentLink2URL: http://www.cypress.com/?docID=49512; ComponentLink3Description: Package Specification; ComponentLink3URL: http://www.cypress.com/?docID=19279; ComponentLink4Description: Product URL; ComponentLink4URL: http://www.cypress.com/?rID=37765
footprint CYP-LFX56-5210X4500TP_N (QFN, 56-Leads, Body 8x8mm, Pitch 0.5mm, Thermal Pad 5.21x4.5mm, IPC Medium Density)
footprint CYP-LFX56-5210X4500TP_L (QFN, 56-Leads, Body 8x8mm, Pitch 0.5mm, Thermal Pad 5.21x4.5mm, IPC High Density)
footprint CYP-LFX56-5210X4500TP_M (QFN, 56-Leads, Body 8x8mm, Pitch 0.5mm, Thermal Pad 5.21x4.5mm, IPC Low Density)
pins: 1 P2[3] (io) "Direct switched capacitor block input", 2 P2[1] (io) "Direct switched capacitor block input", 3 P4[7] (io), 4 P4[5] (io), 5 P4[3] (io), 6 P4[1] (io), 7 P3[7] (io), 8 P3[5] (io), 9 P3[3] (io), 10 P3[1] (io), 11 P5[7] (io), 12 P5[5] (io), 13 P5[3] (io), 14 P5[1] (io), 15 P1[7] (io) "I2C serial clock (SCL)", 16 P1[5] (io) "I2C serial data (SDA)", 17 P1[3] (io), 18 P1[1] (io) "I2C SCL, ISSP SCLK", 19 VSS (power) "Ground connection", 20 DNC "Do not connect anything to this pin", 21 DNC "Do not connect anything to this pin", 22 VDD (power) "Supply voltage", 23 P7[7] (io), 24 P7[0] (io), 25 P1[0] (io) "I2C SDA, ISSP SDATA", 26 P1[2] (io), 27 P1[4] (io) "Optional external clock (EXTCLK) input", 28 P1[6] (io), 29 P5[0] (io), 30 P5[2] (io), 31 P5[4] (io), 32 P5[6] (io), 33 P3[0] (io), 34 P3[2] (io), 35 P3[4] (io), 36 XRES (in) "Active high external reset with internal pull-down", 37 P4[0] (io), 38 P4[2] (io), 39 P4[4] (io), 40 P4[6] (io), 41 P2[0] (io) "Direct switched capacitor block input", 42 P2[2] (io) "Direct switched capacitor block input", 43 P2[4] (power) "External analog ground (AGND) input", 44 P2[6] (io) "External voltage reference (VREF) input", 45 P0[0] (io) "Analog column mux input", 46 P0[2] (io) "Analog column mux input", 47 P0[4] (io) "Analog column mux input", 48 P0[6] (io) "Analog column mux input", 49 VDD (power) "Supply voltage", 50 VSS (power) "Ground connection", 51 P0[7] (io) "Analog column mux input", 52 P0[5] (io) "Analog column mux input and column output", 53 P0[3] (io) "Analog column mux input and column output", 54 P0[1] (io) "Analog column mux input", 55 P2[7] (io), 56 P2[5] (io), 57 EP (power) "Exposed pad is not connected internally. Connect to circuit ground for best performance"

## CY8C24894-24LTXI
designator U?
PSoC Programmable System-on-Chip, 16 KB Flash, 49 GPIOs, 3.00 to 5.25 V, 56-Pin QFN (LT56); Manufacturer: Cypress; PartNumber: CY8C24894-24LTXI; Comm. Interface: I2C-SPI-UART-USB; CPU Core: M8C; No. of CapSense IO: 43; Flash (KB): 16; Max. Operating Voltage (V): 5.25; Min. Operating Voltage (V): 3; No. of GPIOs: 49; Proximity Sensing: Y; PWMs: HW; Rating: I; Sliders: 8; SmartSense Enabled: N; SRAM (KB): 1; DatasheetVersion: Rev. AH; PackageVersion: Rev. *B; PackageReference: LTX56; PackageDescription: 56-Pin QFN, Body 8 x 8 mm, Pitch 0.5 mm; Supplier 1: Digi-Key; Supplier Part Number 1: 428-2938-ND; Supplier 2: Farnell; Supplier Part Number 2: 1874105; Supplier 3: Newark; Supplier Part Number 3: 50R9571; Supplier 4: Mouser; Supplier Part Number 4: 727-CY8C2489424LTXI; Max. Operating Temp. (°C): 85; Min. Operating Temp. (°C): -40; No. of Programmable Digital Blocks: 3; RoHS: Pb-Free; Mounting Technology: Surface Mount; Code_JEDEC: MO-220; ComponentLink1Description: Manufacturer URL; ComponentLink1URL: http://www.cypress.com/; ComponentLink2Description: Datasheet; ComponentLink2URL: http://www.cypress.com/?docID=45174; ComponentLink3Description: Package Specification; ComponentLink3URL: http://www.cypress.com/?docID=35576; ComponentLink4Description: Product URL; ComponentLink4URL: http://www.cypress.com/?rID=3371
footprint CYP-LTX56_N (QFN, 56-Leads, Body 8x8mm, Pitch 0.5mm, Thermal Pad 5.21x4.5mm, IPC Medium Density)
footprint CYP-LTX56_L (QFN, 56-Leads, Body 8x8mm, Pitch 0.5mm, Thermal Pad 5.21x4.5mm, IPC High Density)
footprint CYP-LTX56_M (QFN, 56-Leads, Body 8x8mm, Pitch 0.5mm, Thermal Pad 5.21x4.5mm, IPC Low Density)
pins: 1 P2[3] (io) "Direct switched capacitor block input", 2 P2[1] (io) "Direct switched capacitor block input", 3 P4[7] (io), 4 P4[5] (io), 5 P4[3] (io), 6 P4[1] (io), 7 P3[7] (io), 8 P3[5] (io), 9 P3[3] (io), 10 P3[1] (io), 11 P5[7] (io), 12 P5[5] (io), 13 P5[3] (io), 14 P5[1] (io), 15 P1[7] (io) "I2C SCL", 16 P1[5] (io) "I2C SDA", 17 P1[3] (io), 18 P1[1] (io) "I2 C SCL, ISSP SCLK", 19 VSS (power) "Ground connection", 20 D+ (io), 21 D- (io), 22 VDD (power) "Supply voltage", 23 P7[7] (io), 24 P7[0] (io), 25 P1[0] (io) "I2C SDA, ISSP SDATA", 26 P1[2] (io), 27 P1[4] (io) "Optional EXTCLK", 28 P1[6] (io), 29 P5[0] (io), 30 P5[2] (io), 31 P5[4] (io), 32 P5[6] (io), 33 P3[0] (io), 34 P3[2] (io), 35 P3[4] (io), 36 XRES (in) "Active high external reset with internal pull-down", 37 P4[0] (io), 38 P4[2] (io), 39 P4[4] (io), 40 P4[6] (io), 41 P2[0] (io) "Direct switched capacitor block input", 42 P2[2] (io) "Direct switched capacitor block input", 43 P2[4] (power) "External AGND input", 44 P2[6] (io) "External VREF input", 45 P0[0] (io) "Analog column mux input", 46 P0[2] (io) "Analog column mux input", 47 P0[4] (io) "Analog column mux input VREF", 48 P0[6] (io) "Analog column mux input", 49 VDD (power) "Supply voltage", 50 VSS (power) "Ground connection", 51 P0[7] (io) "Analog column mux input", 52 P0[5] (io) "Analog column mux input and column output", 53 P0[3] (io) "Analog column mux input and column output", 54 P0[1] (io) "Analog column mux input", 55 P2[7] (io), 56 P2[5] (io), 57 EP (power) "SOLDERABLE EXPOSED PAD"

## CY8C24894-24LTXIT
designator U?
PSoC Programmable System-on-Chip, 16 KB Flash, 49 GPIOs, 3.00 to 5.25 V, 56-Pin QFN (LT56), Tape and Reel; Manufacturer: Cypress; PartNumber: CY8C24894-24LTXIT; Comm. Interface: I2C-SPI-UART-USB; CPU Core: M8C; No. of CapSense IO: 43; Flash (KB): 16; Max. Operating Voltage (V): 5.25; Min. Operating Voltage (V): 3; No. of GPIOs: 49; Proximity Sensing: Y; PWMs: HW; Rating: I; Sliders: 8; SmartSense Enabled: N; SRAM (KB): 1; DatasheetVersion: Rev. AH; PackageVersion: Rev. *B; PackageReference: LTX56; PackageDescription: 56-Pin QFN, Body 8 x 8 mm, Pitch 0.5 mm; Supplier 1: Digi-Key; Supplier Part Number 1: CY8C24894-24LTXIT-ND; Supplier 2: Newark; Supplier Part Number 2: 50R9572; Supplier 3: Mouser; Supplier Part Number 3: 727-CY8C2489424LTXIT; Max. Operating Temp. (°C): 85; Min. Operating Temp. (°C): -40; No. of Programmable Digital Blocks: 3; Packing: Tape and Reel; RoHS: Pb-Free; Mounting Technology: Surface Mount; Code_JEDEC: MO-220; ComponentLink1Description: Manufacturer URL; ComponentLink1URL: http://www.cypress.com/; ComponentLink2Description: Datasheet; ComponentLink2URL: http://www.cypress.com/?docID=45174; ComponentLink3Description: Package Specification; ComponentLink3URL: http://www.cypress.com/?docID=35576; ComponentLink4Description: Product URL; ComponentLink4URL: http://www.cypress.com/?rID=3371
footprint CYP-LTX56_N (QFN, 56-Leads, Body 8x8mm, Pitch 0.5mm, Thermal Pad 5.21x4.5mm, IPC Medium Density)
footprint CYP-LTX56_L (QFN, 56-Leads, Body 8x8mm, Pitch 0.5mm, Thermal Pad 5.21x4.5mm, IPC High Density)
footprint CYP-LTX56_M (QFN, 56-Leads, Body 8x8mm, Pitch 0.5mm, Thermal Pad 5.21x4.5mm, IPC Low Density)
pins: 1 P2[3] (io) "Direct switched capacitor block input", 2 P2[1] (io) "Direct switched capacitor block input", 3 P4[7] (io), 4 P4[5] (io), 5 P4[3] (io), 6 P4[1] (io), 7 P3[7] (io), 8 P3[5] (io), 9 P3[3] (io), 10 P3[1] (io), 11 P5[7] (io), 12 P5[5] (io), 13 P5[3] (io), 14 P5[1] (io), 15 P1[7] (io) "I2C SCL", 16 P1[5] (io) "I2C SDA", 17 P1[3] (io), 18 P1[1] (io) "I2 C SCL, ISSP SCLK", 19 VSS (power) "Ground connection", 20 D+ (io), 21 D- (io), 22 VDD (power) "Supply voltage", 23 P7[7] (io), 24 P7[0] (io), 25 P1[0] (io) "I2C SDA, ISSP SDATA", 26 P1[2] (io), 27 P1[4] (io) "Optional EXTCLK", 28 P1[6] (io), 29 P5[0] (io), 30 P5[2] (io), 31 P5[4] (io), 32 P5[6] (io), 33 P3[0] (io), 34 P3[2] (io), 35 P3[4] (io), 36 XRES (in) "Active high external reset with internal pull-down", 37 P4[0] (io), 38 P4[2] (io), 39 P4[4] (io), 40 P4[6] (io), 41 P2[0] (io) "Direct switched capacitor block input", 42 P2[2] (io) "Direct switched capacitor block input", 43 P2[4] (power) "External AGND input", 44 P2[6] (io) "External VREF input", 45 P0[0] (io) "Analog column mux input", 46 P0[2] (io) "Analog column mux input", 47 P0[4] (io) "Analog column mux input VREF", 48 P0[6] (io) "Analog column mux input", 49 VDD (power) "Supply voltage", 50 VSS (power) "Ground connection", 51 P0[7] (io) "Analog column mux input", 52 P0[5] (io) "Analog column mux input and column output", 53 P0[3] (io) "Analog column mux input and column output", 54 P0[1] (io) "Analog column mux input", 55 P2[7] (io), 56 P2[5] (io), 57 EP (power) "SOLDERABLE EXPOSED PAD"

## CY8C24994-24LTXI
designator U?
PSoC Programmable System-on-Chip, 16 KB Flash, 56 GPIOs, 3.00 to 5.25 V, 68-Pin QFN (QFN-68-8x8-001-09618); Manufacturer: Cypress; PartNumber: CY8C24994-24LTXI; Comm. Interface: I2C-SPI-UART-USB; CPU Core: M8C; No. of CapSense IO: 44; Flash (KB): 16; Max. Operating Voltage (V): 5.25; Min. Operating Voltage (V): 3; No. of GPIOs: 56; Proximity Sensing: Y; PWMs: HW; Rating: I; Sliders: 8; SmartSense Enabled: N; SRAM (KB): 1; DatasheetVersion: Rev. AH; PackageVersion: Rev. *E; PackageReference: LTX68; PackageDescription: 68-Pin QFN, Body 8.00 x 8.00 mm, Pitch 0.40 mm; Supplier 1: Digi-Key; Supplier Part Number 1: 428-2965-ND; Supplier 2: Mouser; Supplier Part Number 2: 727-CY8C24994-24LTXI; Max. Operating Temp. (°C): 85; Min. Operating Temp. (°C): -40; No. of Programmable Digital Blocks: 3; RoHS: Pb-Free; Mounting Technology: Surface Mount; Code_JEDEC: MO-220; ComponentLink1Description: Manufacturer URL; ComponentLink1URL: http://www.cypress.com/; ComponentLink2Description: Datasheet; ComponentLink2URL: http://www.cypress.com/?docID=45174; ComponentLink3Description: Package Specification; ComponentLink3URL: http://www.cypress.com/?docID=38892; ComponentLink4Description: Product URL; ComponentLink4URL: http://www.cypress.com/?rID=3371
footprint CYP-LTX68_N (QFN, 68-Leads, Body 8x8mm, Pitch 0.4mm, Thermal Pad 5.7x5.7mm, IPC Medium Density)
footprint CYP-LTX68_L (QFN, 68-Leads, Body 8x8mm, Pitch 0.4mm, Thermal Pad 5.7x5.7mm, IPC High Density)
footprint CYP-LTX68_M (QFN, 68-Leads, Body 8x8mm, Pitch 0.4mm, Thermal Pad 5.7x5.7mm, IPC Low Density)
pins: 1 P4[7] (io), 2 P4[5] (io), 3 P4[3] (io), 4 P4[1] (io), 5 NC "No connection. Pin must be left floating", 6 NC "No connection. Pin must be left floating", 7 VSS (power) "Ground connection", 8 P3[7] (io), 9 P3[5] (io), 10 P3[3] (io), 11 P3[1] (io), 12 P5[7] (io), 13 P5[5] (io), 14 P5[3] (io), 15 P5[1] (io), 16 P1[7] (io) "I2C SCL", 17 P1[5] (io) "I2C SDA", 18 P1[3] (io), 19 P1[1] (io) "I2C SCL ISSP SCLK", 20 VSS (power) "Ground connection", 21 D+ (io), 22 D- (io), 23 VDD (power) "Supply voltage", 24 P7[7] (io), 25 P7[6] (io), 26 P7[5] (io), 27 P7[4] (io), 28 P7[3] (io), 29 P7[2] (io), 30 P7[1] (io), 31 P7[0] (io), 32 P1[0] (io) "I2C SDA, ISSP SDATA", 33 P1[2] (io), 34 P1[4] (io) "Optional EXTCLK", 35 P1[6] (io), 36 P5[0] (io), 37 P5[2] (io), 38 P5[4] (io), 39 P5[6] (io), 40 P3[0] (io), 41 P3[2] (io), 42 P3[4] (io), 43 P3[6] (io), 44 NC "No connection. Pin must be left floating.", 45 NC "No connection. Pin must be left floating.", 46 XRES (in) "Active high external reset with internal pull-down", 47 P4[0] (io), 48 P4[2] (io), 49 P4[4] (io), 50 P4[6] (io), 51 P2[0] (io) "Direct switched capacitor block input", 52 P2[2] (io) "Direct switched capacitor block input", 53 P2[4] (io) "External AGND input", 54 P2[6] (io) "External VREF input", 55 P0[0] (io) "Analog column mux input", 56 P0[2] (io) "Analog column mux input and column output", 57 P0[4] (io) "Analog column mux input and column output", 58 P0[6] (io) "Analog column mux input", 59 VDD (power) "Supply voltage", 60 VSS (power) "Ground connection", 61 P0[7] (io) "Analog column mux input, integration input #1", 62 P0[5] (io) "Analog column mux input and column output, integration input #2", 63 P0[3] (io) "Analog column mux input and column output", 64 P0[1] (io) "Analog column mux input", 65 P2[7] (io), 66 P2[5] (io), 67 P2[3] (io) "Direct switched capacitor block input", 68 P2[1] (io) "Direct switched capacitor block input", 69 EP (power) "SOLDERABLE EXPOSED PAD"

## CY8C24994-24LTXIT
designator U?
PSoC Programmable System-on-Chip, 16 KB Flash, 56 GPIOs, 3.00 to 5.25 V, 68-Pin QFN (QFN-68-8x8-001-09618), Tape and Reel; Manufacturer: Cypress; PartNumber: CY8C24994-24LTXIT; Comm. Interface: I2C-SPI-UART-USB; CPU Core: M8C; No. of CapSense IO: 44; Flash (KB): 16; Max. Operating Voltage (V): 5.25; Min. Operating Voltage (V): 3; No. of GPIOs: 56; Proximity Sensing: Y; PWMs: HW; Rating: I; Sliders: 8; SmartSense Enabled: N; SRAM (KB): 1; DatasheetVersion: Rev. AH; PackageVersion: Rev. *E; PackageReference: LTX68; PackageDescription: 68-Pin QFN, Body 8.00 x 8.00 mm, Pitch 0.40 mm; Supplier 1: Digi-Key; Supplier Part Number 1: CY8C24994-24LTXIT-ND; Supplier 2: Newark; Supplier Part Number 2: 50R9573; Supplier 3: Mouser; Supplier Part Number 3: 727-CY8C2499424LTXIT; Max. Operating Temp. (°C): 85; Min. Operating Temp. (°C): -40; No. of Programmable Digital Blocks: 3; Packing: Tape and Reel; RoHS: Pb-Free; Mounting Technology: Surface Mount; Code_JEDEC: MO-220; ComponentLink1Description: Manufacturer URL; ComponentLink1URL: http://www.cypress.com/; ComponentLink2Description: Datasheet; ComponentLink2URL: http://www.cypress.com/?docID=45174; ComponentLink3Description: Package Specification; ComponentLink3URL: http://www.cypress.com/?docID=38892; ComponentLink4Description: Product URL; ComponentLink4URL: http://www.cypress.com/?rID=3371
footprint CYP-LTX68_N (QFN, 68-Leads, Body 8x8mm, Pitch 0.4mm, Thermal Pad 5.7x5.7mm, IPC Medium Density)
footprint CYP-LTX68_L (QFN, 68-Leads, Body 8x8mm, Pitch 0.4mm, Thermal Pad 5.7x5.7mm, IPC High Density)
footprint CYP-LTX68_M (QFN, 68-Leads, Body 8x8mm, Pitch 0.4mm, Thermal Pad 5.7x5.7mm, IPC Low Density)
pins: 1 P4[7] (io), 2 P4[5] (io), 3 P4[3] (io), 4 P4[1] (io), 5 NC "No connection. Pin must be left floating", 6 NC "No connection. Pin must be left floating", 7 VSS (power) "Ground connection", 8 P3[7] (io), 9 P3[5] (io), 10 P3[3] (io), 11 P3[1] (io), 12 P5[7] (io), 13 P5[5] (io), 14 P5[3] (io), 15 P5[1] (io), 16 P1[7] (io) "I2C SCL", 17 P1[5] (io) "I2C SDA", 18 P1[3] (io), 19 P1[1] (io) "I2C SCL ISSP SCLK", 20 VSS (power) "Ground connection", 21 D+ (io), 22 D- (io), 23 VDD (power) "Supply voltage", 24 P7[7] (io), 25 P7[6] (io), 26 P7[5] (io), 27 P7[4] (io), 28 P7[3] (io), 29 P7[2] (io), 30 P7[1] (io), 31 P7[0] (io), 32 P1[0] (io) "I2C SDA, ISSP SDATA", 33 P1[2] (io), 34 P1[4] (io) "Optional EXTCLK", 35 P1[6] (io), 36 P5[0] (io), 37 P5[2] (io), 38 P5[4] (io), 39 P5[6] (io), 40 P3[0] (io), 41 P3[2] (io), 42 P3[4] (io), 43 P3[6] (io), 44 NC "No connection. Pin must be left floating.", 45 NC "No connection. Pin must be left floating.", 46 XRES (in) "Active high external reset with internal pull-down", 47 P4[0] (io), 48 P4[2] (io), 49 P4[4] (io), 50 P4[6] (io), 51 P2[0] (io) "Direct switched capacitor block input", 52 P2[2] (io) "Direct switched capacitor block input", 53 P2[4] (io) "External AGND input", 54 P2[6] (io) "External VREF input", 55 P0[0] (io) "Analog column mux input", 56 P0[2] (io) "Analog column mux input and column output", 57 P0[4] (io) "Analog column mux input and column output", 58 P0[6] (io) "Analog column mux input", 59 VDD (power) "Supply voltage", 60 VSS (power) "Ground connection", 61 P0[7] (io) "Analog column mux input, integration input #1", 62 P0[5] (io) "Analog column mux input and column output, integration input #2", 63 P0[3] (io) "Analog column mux input and column output", 64 P0[1] (io) "Analog column mux input", 65 P2[7] (io), 66 P2[5] (io), 67 P2[3] (io) "Direct switched capacitor block input", 68 P2[1] (io) "Direct switched capacitor block input", 69 EP (power) "SOLDERABLE EXPOSED PAD"

## CY8C27002-24PVXI
designator U?
PSoC Programmable System-on-Chip, 16 KB Flash, 44 GPIOs, 3.00 to 5.25 V, 56-Pin OCD SSOP (O563); Manufacturer: Cypress; PartNumber: CY8C27002-24PVXI; Flash (KB): 16; Max. Operating Voltage (V): 5.25; Min. Operating Voltage (V): 3.00; No. of Programmable Digital Blocks: 8; DatasheetVersion: Rev. *Z; PackageVersion: *D; PackageReference: O563; PackageDescription: 56-Pin SSOP, Body 18.42 x 7.51 mm, Pitch 0.64 mm; Supplier 1: Mouser; Supplier Part Number 1: N/A; Mounting Technology: Surface Mount; ComponentLink1Description: Manufacturer URL; ComponentLink1URL: http://www.cypress.com/; ComponentLink2Description: Datasheet; ComponentLink2URL: http://www.cypress.com/?docID=45148; ComponentLink3Description: Package Specification; ComponentLink3URL: http://www.cypress.com/?docID=20443; ComponentLink4Description: Product URL; ComponentLink4URL: http://www.cypress.com/?rID=3324
footprint CYPR-CYP-O563_N (SOP, 56-Leads, Body 18.42x7.51mm, Pitch 0.64mm, , IPC Medium Density)
footprint CYPR-CYP-O563_L (SOP, 56-Leads, Body 18.42x7.51mm, Pitch 0.64mm, , IPC High Density)
footprint CYPR-CYP-O563_M (SOP, 56-Leads, Body 18.42x7.51mm, Pitch 0.64mm, , IPC Low Density)
pins: 1 NC "No connection. Pin must be left floating", 2 P0[7] (io) "Analog column mux input", 3 P0[5] (io) "Analog column mux input and column output", 4 P0[3] (io) "Analog column mux input and column output", 5 P0[1] (io) "Analog column mux input", 6 P2[7] (io), 7 P2[5] (io), 8 P2[3] (io) "Direct switched capacitor block input", 9 P2[1] (io) "Direct switched capacitor block input", 10 P4[7] (io), 11 P4[5] (io), 12 P4[3] (io), 13 P4[1] (io), 14 OCDE (io) "OCD even data I/O", 15 OCDO (out) "OCD odd data output", 16 SMP (power) "SMP connection to required external components", 17 P3[7] (io), 18 P3[5] (io), 19 P3[3] (io), 20 P3[1] (io), 21 P5[3] (io), 22 P5[1] (io), 23 P1[7] (io) "I2C SCL", 24 P1[5] (io) "I2C SDA", 25 NC "No connection. Pin must be left floating", 26 P1[3] (io), 27 P1[1] (io) "Crystal Input (XTALin), I2C SCL,ISSP-SCLK", 28 VDD (power) "Supply voltage", 29 NC "No connection. Pin must be left floating", 30 NC "No connection. Pin must be left floating", 31 P1[0] (io) "Crystal output (XTALout), I2C SDA, ISSP-SDATA", 32 P1[2] (io), 33 P1[4] (io) "Optional external clock input (EXTCLK)", 34 P1[6] (io), 35 P5[0] (io), 36 P5[2] (io), 37 P3[0] (io), 38 P3[2] (io), 39 P3[4] (io), 40 P3[6] (io), 41 XRES (in) "Active high external reset with internal pull-down.", 42 HCLK (out) "OCD high-speed clock output", 43 CCLK (out) "OCD CPU clock output", 44 P4[0] (io), 45 P4[2] (io), 46 P4[4] (io), 47 P4[6] (io), 48 P2[0] (io) "Direct switched capacitor block input", 49 P2[2] (io) "Direct switched capacitor block input", 50 P2[4] (power) "External Analog Ground (AGND)", 51 P2[6] (io) "External Voltage Reference (VRef)", 52 P0[0] (io) "Analog column mux input", 53 P0[2] (io) "Analog column mux input and column output", 54 P0[4] (io) "Analog column mux input and column output", 55 P0[6] (io) "Analog column mux input", 56 VDD (power) "Supply voltage"

## CY8C27143-24PXI
designator U?
PSoC Programmable System-on-Chip, 16 KB Flash, 6 GPIOs, 3.00 to 5.25 V, 8-Pin DIP (DIP-8-51-85075); Manufacturer: Cypress; PartNumber: CY8C27143-24PXI; Flash (KB): 16; Max. Operating Voltage (V): 5.25; Min. Operating Voltage (V): 3.00; No. of Programmable Digital Blocks: 8; DatasheetVersion: Rev. *Z; PackageReference: PX8; PackageDescription: 8-Pin PDIP, Row Spacing 7.62 mm, Pitch 2.54 mm; Supplier 1: Digi-Key; Supplier Part Number 1: 428-1593-ND; Supplier 2: Farnell; Supplier Part Number 2: 1267184; Supplier 3: Newark; Supplier Part Number 3: 19M7207; Supplier 4: Mouser; Supplier Part Number 4: 727-CY8C27143-24PXI; Mounting Technology: Through Hole; ComponentLink1Description: Manufacturer URL; ComponentLink1URL: http://www.cypress.com/; ComponentLink2Description: Datasheet; ComponentLink2URL: http://www.cypress.com/?docID=45148; ComponentLink3Description: Product URL; ComponentLink3URL: http://www.cypress.com/?rID=3324
footprint CYP-PX8 (DIP, 8-Leads, Row Spacing 7.62mm, Body 9.779x6.35mm, Pitch 2.54mm)
pins: 1 P0[5] (io) "Analog column mux input and column output", 2 P0[3] (io) "Analog column mux input and column output", 3 P1[1] (io) "Crystal Input (XTALin), I2C serial clock (SCL),  ISSP-SCLK", 4 VSS (power) "Ground connection.", 5 P1[0] (io) "Crystal output (XTALout), I2C serial data (SDA),  ISSP-SDATA", 6 P0[2] (io) "Analog column mux input and column output", 7 P0[4] (io) "Analog column mux input and column output", 8 VDD (power) "Supply voltage"